# Altium schematic symbol library 5055750271.SchLib: 1 symbol
Pins are listed as number, name and electrical type; pins without a type are passive.

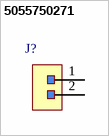
[diagram p0: symbol 5055750271]

## 5055750271
designator J?
pins: 1, 2